# Altium footprint library XH2.54.PcbLib: 25 footprints (part 1 of 2)
Each footprint in its own frame and in the unit in brackets; x right, y up, seen from the top. Pads: shape width x height; smd on the part's side, far side on the other; paste and mask are expansions set on the pad; w line width, h text height; cw(c..) or ccw(c..) is an arc to the next point about the centre after c.
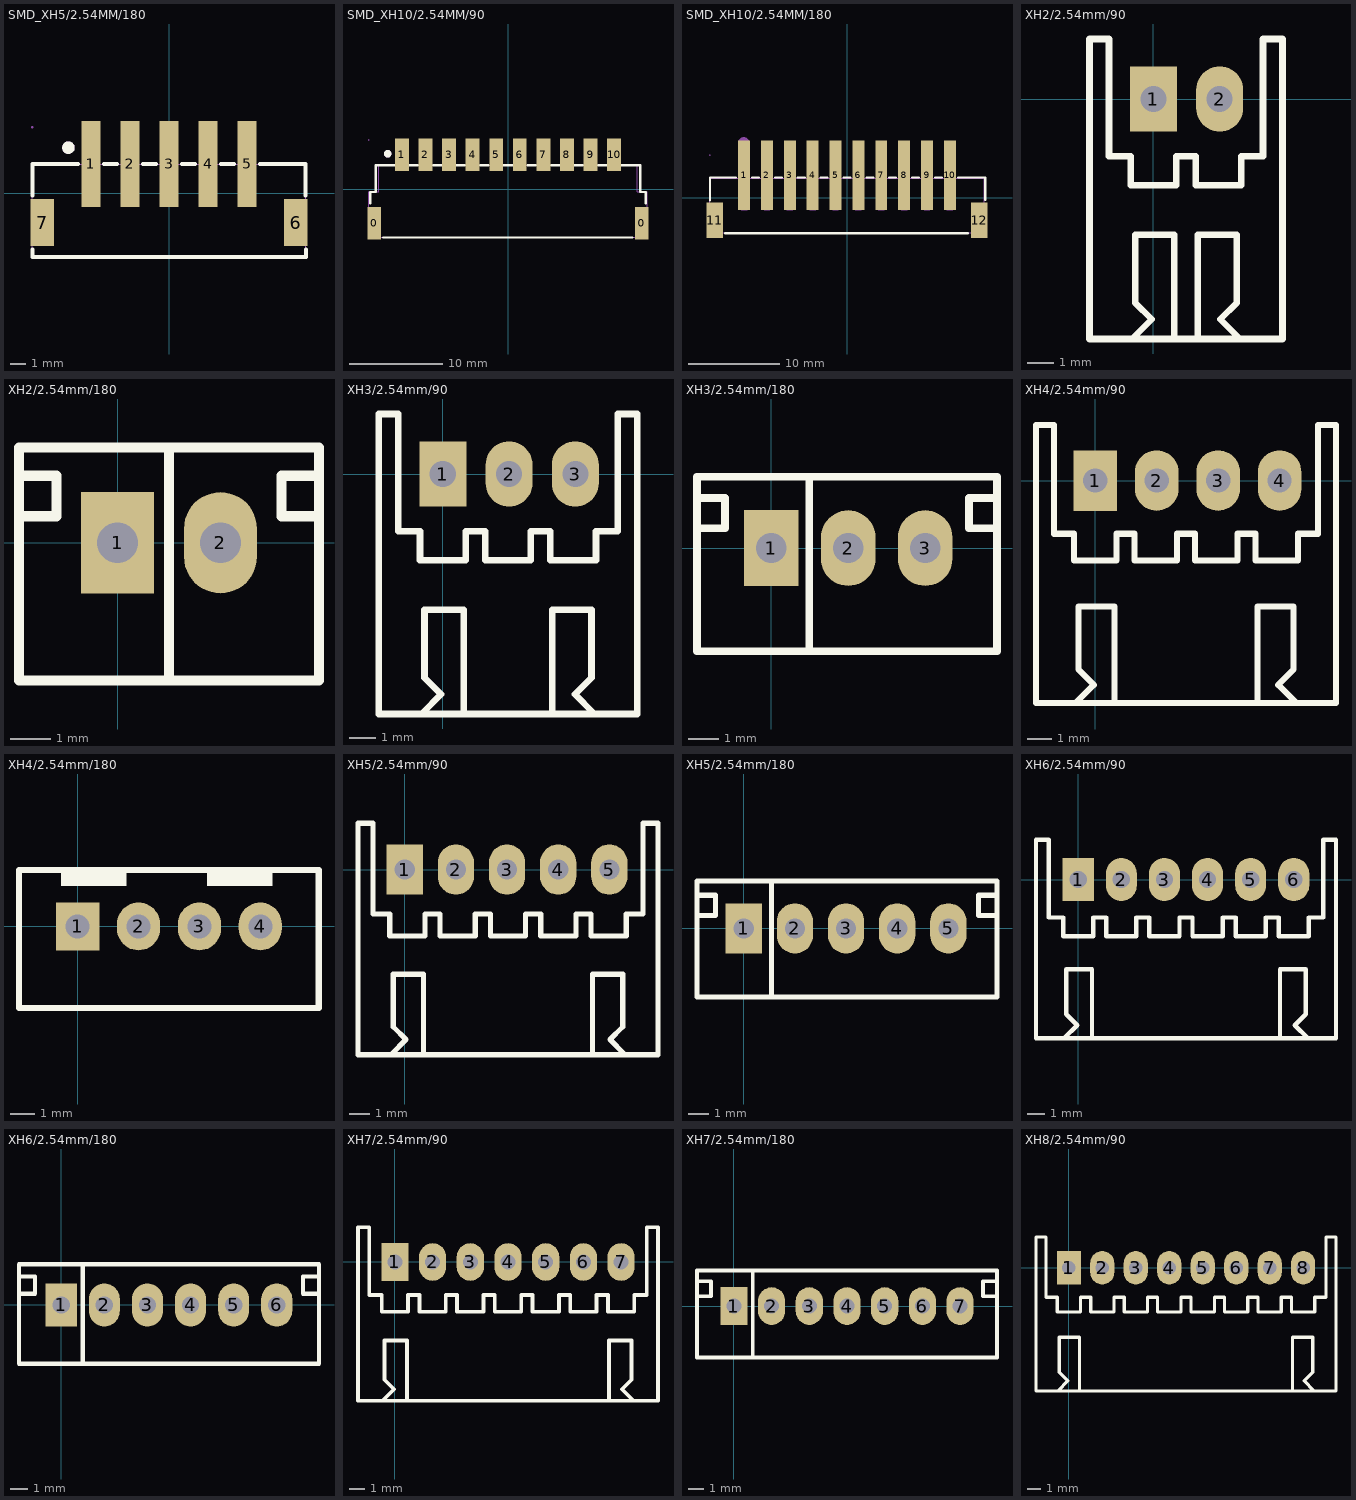
[diagram p0: the footprints below, top view; thin cyan lines are the x and y axes]

## SMD_XH5/2.54MM/180 [mm]
pads (7):
  rect 1.2x5.5 smd: 1(-5,1.875) 2(-2.5,1.875) 3(0,1.875) 4(2.5,1.875) 5(5,1.875)
  rect 1.5x3 smd: 6(8.1,-1.875) 7(-8.1,-1.875)
Top Overlay:
  circle w0.4: c-6.437,2.921 r0.2
  lines w0.254: -8.722,-3.607 -8.722,-4.065 3.724,-4.065 8.763,-4.065 8.763,-3.606 ; -8.723,-0.144 -8.723,1.875 -5.831,1.875 ; -4.169,1.875 -3.331,1.875 ; -1.669,1.875 -0.831,1.875 ; 0.831,1.875 1.669,1.875 ; 3.331,1.875 4.169,1.875 ; 5.831,1.875 5.858,1.875 8.75,1.875 8.75,-0.144
Mechanical 6:
  circle w0.4: c-6.437,2.921 r0.2
Mechanical 15:
  region: 2.18,4.225 2.82,4.225 2.82,0.225 2.18,0.225
  region: 4.68,4.225 5.32,4.225 5.32,0.225 4.68,0.225
  region: 7.7,-0.875 8.5,-0.875 8.5,-2.875 7.7,-2.875
  region: -0.32,4.225 0.32,4.225 0.32,0.225 -0.32,0.225
  region: -2.82,4.225 -2.18,4.225 -2.18,0.225 -2.82,0.225
  region: -5.32,4.225 -4.68,4.225 -4.68,0.225 -5.32,0.225
  region: -8.5,-0.875 -7.7,-0.875 -7.7,-2.875 -8.5,-2.875
  region: -8.69,4.225 -8.69,4.25 -8.725,4.284 -8.774,4.284 -8.809,4.25 -8.81,4.225 -8.809,4.201 -8.774,4.166 -8.725,4.166 -8.69,4.201
  lines w0.051: -8.75,-4.075 8.75,-4.075 8.75,1.875 -8.75,1.875 -8.75,-4.075
3D body "CN1.step": height 7.9, standoff 0, extent -8.75,-3.993 8.75,4.307

## SMD_XH10/2.54MM/90 [mm]
pads (12):
  rect 1.5x3.5 smd paste+0 mask+0.05: 0(-14.41,-3.7) 0(14.41,-3.7) 1(-11.43,3.7) 2(-8.89,3.7) 3(-6.35,3.7) 4(-3.81,3.7) 5(-1.27,3.7) 6(1.27,3.7) 7(3.81,3.7) 8(6.35,3.7) 9(8.89,3.7) 10(11.43,3.7)
Top Overlay:
  circle w0.4: c-12.954,3.797 r0.2
  lines w0.254: -14.859,-1.569 -14.859,-0.325 -14.25,-0.325 -14.25,2.575 -12.261,2.575 ; -13.45,-5.225 0.699,-5.225 13.076,-5.225 13.399,-5.225 ; -10.599,2.575 -9.721,2.575 ; -8.059,2.575 -7.181,2.575 ; -5.519,2.575 -4.641,2.575 ; -2.979,2.575 -2.101,2.575 -2.286,2.575 ; -0.439,2.575 0.439,2.575 ; 2.101,2.575 2.979,2.575 ; 4.641,2.575 5.519,2.575 ; 7.181,2.575 8.059,2.575 ; 9.721,2.575 10.599,2.575 ; 12.405,2.575 12.261,2.575 14.249,2.575 14.249,-0.325 14.859,-0.325 14.859,-1.569
Mechanical 6:
  circle w0.4: c-12.954,3.797 r0.2
Mechanical 15:
  region: -14.94,5.278 -14.941,5.302 -14.976,5.336 -15.024,5.336 -15.059,5.302 -15.06,5.278 -15.059,5.254 -15.024,5.22 -14.976,5.22 -14.941,5.254
  region: 13.95,-2.2 14.35,-2.2 14.35,-5.2 13.95,-5.2
  region: 0.95,5.278 1.59,5.278 1.59,2.574 0.95,2.574
  region: -14.35,-2.2 -13.95,-2.2 -13.95,-5.2 -14.35,-5.2
  region: -1.59,5.278 -0.95,5.278 -0.95,2.574 -1.59,2.574
  region: -4.13,5.278 -3.49,5.278 -3.49,2.574 -4.13,2.574
  region: -6.67,5.278 -6.03,5.278 -6.03,2.574 -6.67,2.574
  region: -9.21,5.278 -8.57,5.278 -8.57,2.574 -9.21,2.574
  region: -11.75,5.278 -11.11,5.278 -11.11,2.574 -11.75,2.574
  region: 3.49,5.278 4.13,5.278 4.13,2.574 3.49,2.574
  region: 6.03,5.278 6.67,5.278 6.67,2.574 6.03,2.574
  region: 8.57,5.278 9.21,5.278 9.21,2.574 8.57,2.574
  region: 11.11,5.278 11.75,5.278 11.75,2.574 11.11,2.574
  lines w0.051: -15,-5.223 -15,-0.323 -13.9,-0.323 -13.9,2.577 13.9,2.577 13.9,-0.323 15,-0.323 15,-5.223 -15,-5.223
3D body "U1.step": height 6.2, standoff 0, extent -15,-5.213 15,5.287

## SMD_XH10/2.54MM/180 [mm]
pads (12):
  rect 1.3x7.6 smd paste+0 mask+0.05: 1(-11.252,2.468) 2(-8.752,2.468) 3(-6.252,2.468) 4(-3.751,2.468) 5(-1.252,2.468) 6(1.249,2.468) 7(3.748,2.468) 8(6.249,2.468) 9(8.748,2.468) 10(11.249,2.468)
  rect 1.8x3.9 smd paste+0 mask+0.05: 11(-14.452,-2.468) 12(14.452,-2.468)
Top Overlay:
  lines w0.254: -14.986,-0.287 -14.986,2.19 -12.133,2.19 ; -13.321,-3.906 13.208,-3.906 ; -10.37,2.19 -9.633,2.19 ; -7.87,2.19 -7.133,2.19 ; -5.37,2.19 -4.633,2.19 ; -2.87,2.19 -2.133,2.19 ; -0.37,2.19 0.367,2.19 ; 2.13,2.19 2.867,2.19 ; 4.63,2.19 5.367,2.19 ; 7.13,2.19 7.867,2.19 ; 9.63,2.19 10.367,2.19 ; 12.13,2.19 15.113,2.19 15.113,-0.223
Mechanical 6:
  circle w0.6: c-11.303,6 r0.3
Mechanical 15:
  region: 14.052,-1.469 14.852,-1.469 14.852,-3.469 14.052,-3.469
  region: -14.853,-1.469 -14.053,-1.469 -14.053,-3.469 -14.853,-3.469
  region: -11.572,4.642 -10.932,4.642 -10.932,-1.358 -11.572,-1.358
  region: -9.072,4.642 -8.432,4.642 -8.432,-1.358 -9.072,-1.358
  region: -6.572,4.642 -5.932,4.642 -5.932,-1.358 -6.572,-1.358
  region: -4.072,4.642 -3.432,4.642 -3.432,-1.358 -4.072,-1.358
  region: -1.572,4.642 -0.932,4.642 -0.932,-1.358 -1.572,-1.358
  region: 0.928,4.642 1.568,4.642 1.568,-1.358 0.928,-1.358
  region: 3.428,4.642 4.068,4.642 4.068,-1.358 3.428,-1.358
  region: 5.928,4.642 6.568,4.642 6.568,-1.358 5.928,-1.358
  region: 8.428,4.642 9.068,4.642 9.068,-1.358 8.428,-1.358
  region: 10.928,4.642 11.568,4.642 11.568,-1.358 10.928,-1.358
  region: -14.94,4.642 -14.94,4.667 -14.975,4.702 -15.025,4.702 -15.06,4.667 -15.06,4.642 -15.06,4.617 -15.025,4.582 -14.975,4.582 -14.94,4.617
  lines w0.051: -15,-3.858 15,-3.858 15,2.142 -15,2.142 -15,-3.858
3D body "CN1.step": height 7.82, standoff 0, extent -15,-3.885 15,4.615

## XH2/2.54mm/90 [mm]
pads (2):
  rect 1.8x2.5 hole 1: 1(0,0)
  oval 1.8x2.5 hole 1: 2(2.54,0)
Top Overlay:
  lines w0.254: -0.79,-9.172 -0.064,-8.445 -0.7,-7.809 -0.7,-5.2 0.8,-5.2 0.8,-9.2 ; 1.7,-9.2 1.7,-5.2 3.2,-5.2 3.2,-7.809 2.564,-8.445 3.29,-9.172 ; -2.45,-9.2 -2.45,2.3 -1.7,2.3 -1.7,-2.2 -0.875,-2.2 -0.875,-3.3 0.875,-3.3 0.875,-2.2 1.625,-2.2 1.625,-3.3 3.375,-3.3 3.375,-2.2 4.2,-2.2 4.2,2.3 4.95,2.3 4.95,-9.2 -2.45,-9.2
3D body "JST-S2B-XH-A.STEP": height 6.1, standoff -3.4, extent -2.45,-9.2 4.95,2.3

## XH2/2.54mm/180 [mm]
pads (2):
  rect 1.8x2.5 hole 1: 1(0,0)
  oval 1.8x2.5 hole 1: 2(2.54,0)
Top Overlay:
  lines w0.254: -2.43,0.65 -1.504,0.65 -1.504,1.65 -2.43,1.65 ; 1.27,-3.4 1.27,2.35 ; 4.97,0.65 4.044,0.65 4.044,1.65 4.97,1.65 ; -2.43,-3.4 -2.43,2.35 4.97,2.35 4.97,-3.4 -2.43,-3.4
3D body "JST-B2B-XH-A.STEP": height 7, standoff -3.4, extent -2.43,-3.4 4.97,2.35

## XH3/2.54mm/90 [mm]
pads (3):
  rect 1.8x2.5 hole 1: 1(0,0)
  oval 1.8x2.5 hole 1: 2(2.54,0) 3(5.08,0)
Top Overlay:
  lines w0.254: -0.79,-9.172 -0.064,-8.445 -0.7,-7.809 -0.7,-5.2 0.8,-5.2 0.8,-9.2 ; 4.2,-9.2 4.2,-5.2 5.7,-5.2 5.7,-7.809 5.064,-8.445 5.79,-9.172 ; -2.45,-9.2 -2.45,2.3 -1.7,2.3 -1.7,-2.2 -0.875,-2.2 -0.875,-3.3 0.875,-3.3 0.875,-2.2 1.625,-2.2 1.625,-3.3 3.375,-3.3 3.375,-2.2 4.125,-2.2 4.125,-3.3 5.875,-3.3 5.875,-2.2 6.7,-2.2 6.7,2.3 7.45,2.3 7.45,-9.2 -2.45,-9.2
3D body "JST-S3B-XH-A.STEP": height 6.1, standoff -3.4, extent -2.45,-9.2 7.45,2.3

## XH3/2.54mm/180 [mm]
pads (3):
  rect 1.8x2.5 hole 1: 1(0,0)
  oval 1.8x2.5 hole 1: 2(2.54,0) 3(5.08,0)
Top Overlay:
  lines w0.254: -2.45,0.65 -1.524,0.65 -1.524,1.65 -2.45,1.65 ; 1.25,-3.4 1.25,2.35 ; 7.45,0.65 6.524,0.65 6.524,1.65 7.45,1.65 ; -2.45,-3.4 -2.45,2.35 7.45,2.35 7.45,-3.4 -2.45,-3.4
3D body "JST-B3B-XH-A.STEP": height 7, standoff -3.4, extent -2.45,-3.4 7.45,2.35

## XH4/2.54mm/90 [mm]
pads (4):
  rect 1.8x2.5 hole 1: 1(0,0)
  oval 1.8x2.5 hole 1: 2(2.54,0) 3(5.08,0) 4(7.62,0)
Top Overlay:
  lines w0.254: -0.79,-9.172 -0.064,-8.445 -0.7,-7.809 -0.7,-5.2 0.8,-5.2 0.8,-9.2 ; 6.7,-9.2 6.7,-5.2 8.2,-5.2 8.2,-7.809 7.564,-8.445 8.29,-9.172 ; -2.45,-9.2 9.95,-9.2 9.95,2.3 9.2,2.3 9.2,-2.2 8.375,-2.2 8.375,-3.3 6.625,-3.3 6.625,-2.2 5.875,-2.2 5.875,-3.3 4.125,-3.3 4.125,-2.2 3.375,-2.2 3.375,-3.3 1.625,-3.3 1.625,-2.2 0.875,-2.2 0.875,-3.3 -0.875,-3.3 -0.875,-2.2 -1.7,-2.2 -1.7,2.3 -2.45,2.3 -2.45,-9.2
3D body "JST-S4B-XH-A.STEP": height 6.1, standoff -3.4, extent -2.45,-9.2 9.95,2.3

## XH4/2.54mm/180 [mm]
pads (4):
  rect 1.8x2 hole 1: 1(0,0)
  oval 1.8x2 hole 1: 2(2.54,0) 3(5.08,0) 4(7.62,0)
Top Overlay:
  rectangle: -0.704,1.692 2.032,2.342
  rectangle: 5.392,1.692 8.128,2.342
  lines w0.24: -2.45,0 -2.45,2.35
  lines w0.254: -2.45,0 -2.45,-3.4 ; 10.058,-3.4 10.058,2.325 ; -2.45,-3.4 -2.45,2.35 ; -2.45,-3.4 10.07,-3.4 ; -2.45,2.35 10.07,2.35 ; -2.45,2.35 -2.45,2.35 ; 10.07,-3.4 10.07,0 10.07,2.35 ; 10.07,-3.4 10.07,2.35
3D body "User Library-B4B-XH-A.STEP": height 7, standoff -3.4, extent -2.39,-3.302 10.01,2.448

## XH5/2.54mm/90 [mm]
pads (5):
  rect 1.8x2.5 hole 1: 1(0,0)
  oval 1.8x2.5 hole 1: 2(2.54,0) 3(5.08,0) 4(7.62,0) 5(10.16,0)
Top Overlay:
  lines w0.254: -0.663,-9.172 0.064,-8.445 -0.573,-7.809 -0.573,-5.2 0.927,-5.2 0.927,-9.2 ; 9.327,-9.2 9.327,-5.2 10.827,-5.2 10.827,-7.809 10.191,-8.445 10.917,-9.172 ; -2.323,-9.2 -2.323,2.3 -1.573,2.3 -1.573,-2.2 -0.748,-2.2 -0.748,-3.3 1.002,-3.3 1.002,-2.2 1.752,-2.2 1.752,-3.3 3.502,-3.3 3.502,-2.2 4.252,-2.2 4.252,-3.3 6.002,-3.3 6.002,-2.2 6.752,-2.2 6.752,-3.3 8.502,-3.3 8.502,-2.2 9.252,-2.2 9.252,-3.3 11.002,-3.3 11.002,-2.2 11.827,-2.2 11.827,2.3 12.577,2.3 12.577,-9.2 -2.323,-9.2
3D body "JST-S5B-XH-A.STEP": height 6.1, standoff -3.4, extent -2.323,-9.2 12.577,2.3

## XH5/2.54mm/180 [mm]
pads (5):
  rect 1.8x2.5 hole 1: 1(0,0)
  oval 1.8x2.5 hole 1: 2(2.54,0) 3(5.08,0) 4(7.62,0) 5(10.16,0)
Top Overlay:
  lines w0.254: -2.323,0.65 -1.397,0.65 -1.397,1.65 -2.323,1.65 ; 1.377,-3.4 1.377,2.35 ; 12.577,0.65 11.651,0.65 11.651,1.65 12.577,1.65 ; -2.323,-3.4 12.577,-3.4 12.577,2.35 -2.323,2.35 -2.323,-3.4
3D body "JST-B5B-XH-A.STEP": height 7, standoff -3.4, extent -2.323,-3.4 12.577,2.35

## XH6/2.54mm/90 [mm]
pads (6):
  rect 1.8x2.5 hole 1: 1(0,0)
  oval 1.8x2.5 hole 1: 2(2.5,0) 3(5,0) 4(7.5,0) 5(10,0) 6(12.5,0)
Top Overlay:
  lines w0.254: -0.79,-9.172 -0.064,-8.445 -0.7,-7.809 -0.7,-5.2 0.8,-5.2 0.8,-9.2 ; 11.7,-9.2 11.7,-5.2 13.2,-5.2 13.2,-7.809 12.564,-8.445 13.29,-9.172 ; -2.45,-9.2 14.95,-9.2 14.95,2.3 14.2,2.3 14.2,-2.2 13.375,-2.2 13.375,-3.3 11.625,-3.3 11.625,-2.2 10.875,-2.2 10.875,-3.3 9.125,-3.3 9.125,-2.2 8.375,-2.2 8.375,-3.3 6.625,-3.3 6.625,-2.2 5.875,-2.2 5.875,-3.3 4.125,-3.3 4.125,-2.2 3.375,-2.2 3.375,-3.3 1.625,-3.3 1.625,-2.2 0.875,-2.2 0.875,-3.3 -0.875,-3.3 -0.875,-2.2 -1.7,-2.2 -1.7,2.3 -2.45,2.3 -2.45,-9.2
3D body "JST-S6B-XH-A.STEP": height 6.1, standoff -3.4, extent -2.45,-9.2 14.95,2.3

## XH6/2.54mm/180 [mm]
pads (6):
  rect 1.8x2.5 hole 1: 1(0,0)
  oval 1.8x2.5 hole 1: 2(2.5,0) 3(5,0) 4(7.5,0) 5(10,0) 6(12.5,0)
Top Overlay:
  lines w0.254: -2.45,0.65 -1.524,0.65 -1.524,1.65 -2.45,1.65 ; 1.25,-3.4 1.25,2.35 ; 14.95,0.65 14.024,0.65 14.024,1.65 14.95,1.65 ; -2.45,-3.4 -2.45,2.35 14.95,2.35 14.95,-3.4 -2.45,-3.4
3D body "JST-B6B-XH-A.STEP": height 7, standoff -3.4, extent -2.45,-3.4 14.95,2.35

## XH7/2.54mm/90 [mm]
pads (7):
  rect 1.8x2.5 hole 1: 1(0,0)
  oval 1.8x2.5 hole 1: 2(2.5,0) 3(5,0) 4(7.5,0) 5(10,0) 6(12.5,0) 7(15,0)
Top Overlay:
  lines w0.254: -0.79,-9.172 -0.064,-8.445 -0.7,-7.809 -0.7,-5.2 0.8,-5.2 0.8,-9.2 ; 14.2,-9.2 14.2,-5.2 15.7,-5.2 15.7,-7.809 15.064,-8.445 15.79,-9.172 ; -2.45,-9.2 17.45,-9.2 17.45,2.3 16.7,2.3 16.7,-2.2 15.875,-2.2 15.875,-3.3 14.125,-3.3 14.125,-2.2 13.375,-2.2 13.375,-3.3 11.625,-3.3 11.625,-2.2 10.875,-2.2 10.875,-3.3 9.125,-3.3 9.125,-2.2 8.375,-2.2 8.375,-3.3 6.625,-3.3 6.625,-2.2 5.875,-2.2 5.875,-3.3 4.125,-3.3 4.125,-2.2 3.375,-2.2 3.375,-3.3 1.625,-3.3 1.625,-2.2 0.875,-2.2 0.875,-3.3 -0.875,-3.3 -0.875,-2.2 -1.7,-2.2 -1.7,2.3 -2.45,2.3 -2.45,-9.2
3D body "JST-S7B-XH-A.STEP": height 6.1, standoff -3.4, extent -2.45,-9.2 17.45,2.3

## XH7/2.54mm/180 [mm]
pads (7):
  rect 1.8x2.5 hole 1: 1(0,0)
  oval 1.8x2.5 hole 1: 2(2.5,0) 3(5,0) 4(7.5,0) 5(10,0) 6(12.5,0) 7(15,0)
Top Overlay:
  lines w0.254: -2.45,0.65 -1.524,0.65 -1.524,1.65 -2.45,1.65 ; 1.25,-3.4 1.25,2.35 ; 17.45,0.65 16.524,0.65 16.524,1.65 17.45,1.65 ; -2.45,-3.4 -2.45,2.35 17.45,2.35 17.45,-3.4 -2.45,-3.4
3D body "JST-B7B-XH-A.STEP": height 7, standoff -3.4, extent -2.45,-3.4 17.45,2.35

## XH8/2.54mm/90 [mm]
pads (8):
  rect 1.8x2.5 hole 1: 1(0,0)
  oval 1.8x2.5 hole 1: 2(2.5,0) 3(5,0) 4(7.5,0) 5(10,0) 6(12.5,0) 7(15,0) 8(17.5,0)
Top Overlay:
  lines w0.254: -0.79,-9.172 -0.064,-8.445 -0.7,-7.809 -0.7,-5.2 0.8,-5.2 0.8,-9.2 ; 16.7,-9.2 16.7,-5.2 18.2,-5.2 18.2,-7.809 17.564,-8.445 18.29,-9.172 ; -2.45,-9.2 19.95,-9.2 19.95,2.3 19.2,2.3 19.2,-2.2 18.375,-2.2 18.375,-3.3 16.625,-3.3 16.625,-2.2 15.875,-2.2 15.875,-3.3 14.125,-3.3 14.125,-2.2 13.375,-2.2 13.375,-3.3 11.625,-3.3 11.625,-2.2 10.875,-2.2 10.875,-3.3 9.125,-3.3 9.125,-2.2 8.375,-2.2 8.375,-3.3 6.625,-3.3 6.625,-2.2 5.875,-2.2 5.875,-3.3 4.125,-3.3 4.125,-2.2 3.375,-2.2 3.375,-3.3 1.625,-3.3 1.625,-2.2 0.875,-2.2 0.875,-3.3 -0.875,-3.3 -0.875,-2.2 -1.7,-2.2 -1.7,2.3 -2.45,2.3 -2.45,-9.2
3D body "JST-S8B-XH-A.STEP": height 6.1, standoff -3.4, extent -2.45,-9.2 19.95,2.3